# Altium footprint library Capacitor.PcbLib: 5 footprints
Each footprint in its own frame and in the unit in brackets; x right, y up, seen from the top. Pads: shape width x height; smd on the part's side, far side on the other; paste and mask are expansions set on the pad; w line width, h text height; cw(c..) or ccw(c..) is an arc to the next point about the centre after c.
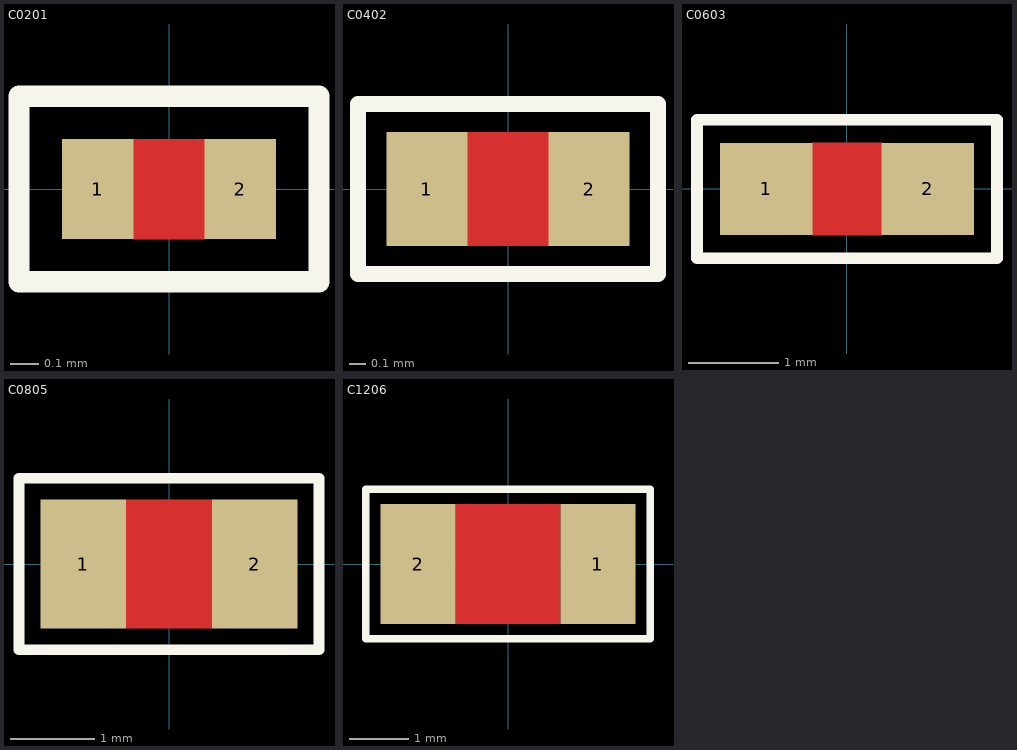
[diagram p0: the footprints below, top view; thin cyan lines are the x and y axes]

## C0201 [mil]
pads (2):
  rect 10x14 smd: 1(-10,0) 2(10,0)
Top Layer:
  pour cut-out: -5,7 -5,-7 5,-7 5,7
Top Overlay:
  lines w3: -21,-13 21,-13 21,13 -21,13 -21,-13
3D body "0201 Cap.step": height 12.1, standoff 0, extent -11.99,-5.99 12.01,6.01

## C0402 [mil]
pads (2):
  rect 20x28 smd: 1(-20,0) 2(20,0)
Top Layer:
  pour cut-out: -10,14 -10,-14 10,-14 10,14
Top Overlay:
  lines w4: -37,-21 -37,21 37,21 37,-21 -37,-21
3D body "0402 SMD Capacitor.step": height 7.95, standoff 0, extent -19.68,-11.8 19.7,11.82

## C0603 [mil]
pads (2):
  rect 40x40 smd: 1(-35,0) 2(35,0)
Top Layer:
  pour cut-out: -15,20 -15,-20 15,-20 15,20
Top Overlay:
  lines w5: -65,-30 -65,30 65,30 65,-30 -65,-30
3D body "0603 SMD Capacitor.step": height 11.89, standoff 0, extent -31.49,-15.75 31.5,15.75

## C0805 [mil]
pads (2):
  rect 40x60 smd: 1(-40,0) 2(40,0)
Top Layer:
  pour cut-out: -20,30 -20,-30 20,-30 20,30
Top Overlay:
  lines w5: -70,-40 -70,40 70,40 70,-40 -70,-40
3D body "0805 SMD Capacitor.step": height 30.79, standoff 0, extent -39.37,-24.5 39.37,24.71

## C1206 [mil]
pads (2):
  rect 50x80 smd: 1(60,0) 2(-60,0)
Top Layer:
  pour cut-out: -35,40 -35,-40 35,-40 35,40
Top Overlay:
  lines w5: -95,-50 95,-50 95,50 -95,50 -95,-50
3D body "1206 SMD CAP.step": height 39.45, standoff 0, extent -62.98,-31.49 63,31.5